# Altium integrated library Linear Technology Power Management LED Driver ICs.IntLib: 490 symbols (part 17 of 48)
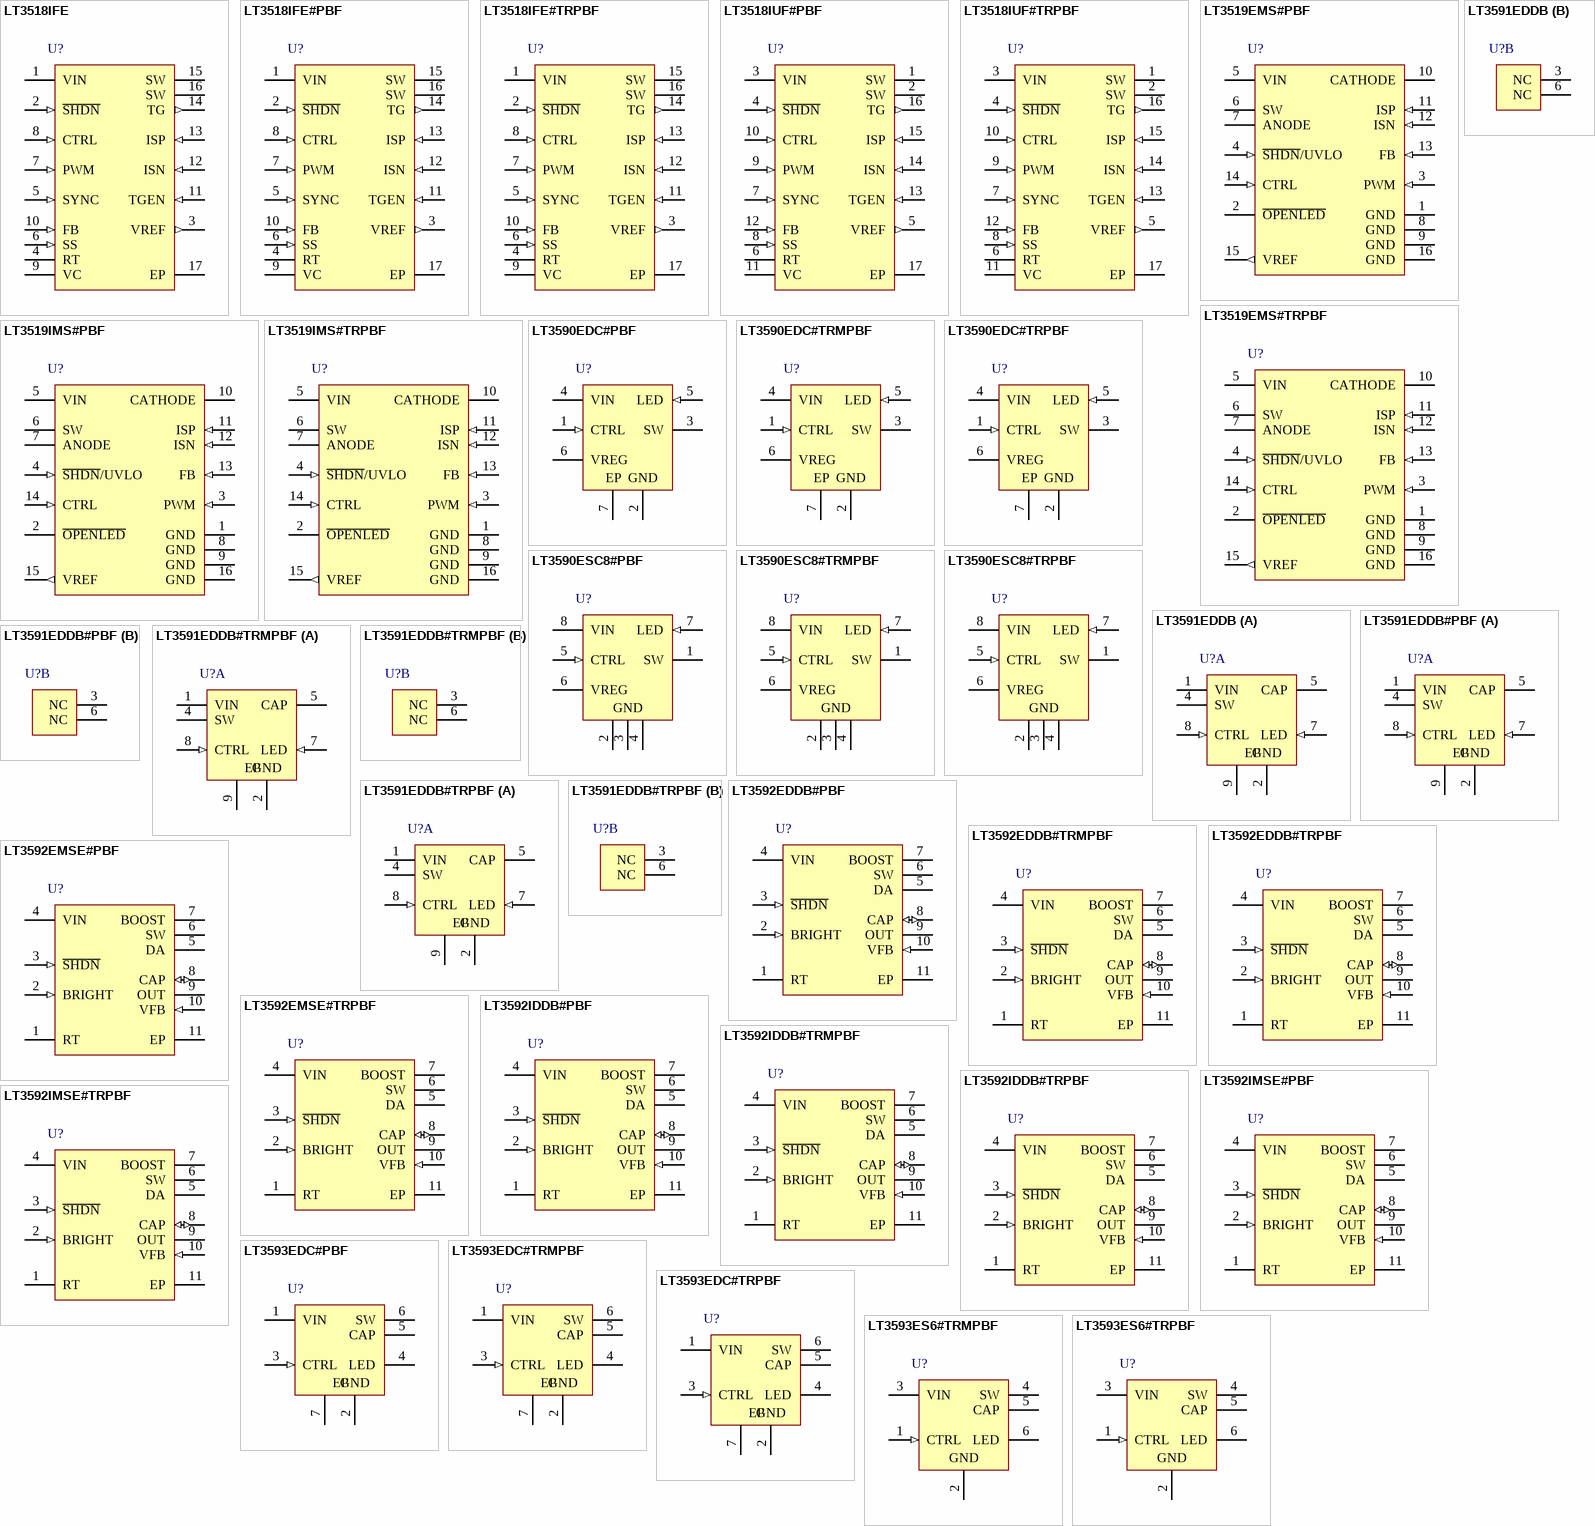
[diagram p36: symbols LT3518IFE to LT3593ES6#TRPBF]

## LT3593ES6#TRMPBF
designator U?
1 MHz White LED Driver with Output Disconnect and One Pin Current Programming, 2.7 to 5.5 V Vin, 45 V Vout MAX, 6-pin SOT23 (S6-6), -40 to 85 degC, Pb-Free, Mini Tape and Reel; Manufacturer: Linear Technology; PartNumber: LT3593ES6#TRMPBF; Topology: Boost, LED Driver; Vin Min(V): 2.7; PackageVersion: Jun-10; PackageReference: S6-6; PackageDescription: 6-Pin Plastic TSOT-23, Body 2.9 x 1.63 mm, Pitch 0.95 mm; Supplier 1: Digi-Key; Supplier Part Number 1: LT3593ES6#TRMPBFTR-ND; Supplier 2: Digi-Key; Supplier Part Number 2: LT3593ES6#TRMPBFCT-ND; Supplier 3: Digi-Key; Supplier Part Number 3: LT3593ES6#TRMPBFDKR-ND; Supplier 4: Farnell; Supplier Part Number 4: 1609755; Supplier 5: Newark; Supplier Part Number 5: 14N8615; Packing: Mini Tape and Reel; RoHS: TRUE; Mounting Technology: Surface Mount; Code_JEDEC: MO-193; ComponentLink1Description: Manufacturer URL; ComponentLink1URL: http://www.linear.com/; ComponentLink2Description: Datasheet; ComponentLink2URL: http://cds.linear.com/docs/en/datasheet/3593f.pdf; ComponentLink3Description: Package Specification; ComponentLink3URL: http://cds.linear.com/docs/en/packaging/SOT_6_05-08-1636.pdf
footprint LT-S6-6-TSOT-23_N (SOT23, 6-Leads, Body 2.9x1.75mm, Pitch 0.95mm, IPC Medium Density)
footprint LT-S6-6-TSOT-23_L (SOT23, 6-Leads, Body 2.9x1.75mm, Pitch 0.95mm, IPC High Density)
footprint LT-S6-6-TSOT-23_M (SOT23, 6-Leads, Body 2.9x1.75mm, Pitch 0.95mm, IPC Low Density)
pins: 1 CTRL (in) "Current Control and Shutdown Pin.This pin is used to program the LED output current. This pin is strobed up to 32 times to decrement the internal 5-bit dacs from full-scale to 1LSB. The counter will stop at 1LSB if the (See Datasheet)", 2 GND (power) "Ground Pin. Connect directly to local ground plane", 3 VIN (power) "Input Supply Pin. Must be locally bypassed with a 1uF X5R or X7R type ceramic capacitor.", 4 SW "Switch Pin. Connect inductor between this pin and the VIN pin. Minimize inductance at this pin to minimize EMI", 5 CAP "Output Pin. Connect to output capacitor.Minimize trace between this pin and output capacitor to reduce EMI", 6 LED (power) "LED Pin. An internal switch connects this pin to CAP. The top of the LED string is connected to this pin. When the part is in shutdown, the LED pin is switched off from CAP so no current runs through the leds. The switch is (See Datasheet)"

## LT3593ES6#TRPBF
designator U?
1 MHz White LED Driver with Output Disconnect and One Pin Current Programming, 2.7 to 5.5 V Vin, 45 V Vout MAX, 6-pin SOT23 (S6-6), -40 to 85 degC, Pb-Free, Tape and Reel; Manufacturer: Linear Technology; PartNumber: LT3593ES6#TRPBF; Topology: Boost, LED Driver; Vin Min(V): 2.7; PackageVersion: Jun-10; PackageReference: S6-6; PackageDescription: 6-Pin Plastic TSOT-23, Body 2.9 x 1.63 mm, Pitch 0.95 mm; Supplier 1: Digi-Key; Supplier Part Number 1: LT3593ES6#TRPBF-ND; Packing: Tape and Reel; RoHS: TRUE; Mounting Technology: Surface Mount; Code_JEDEC: MO-193; ComponentLink1Description: Manufacturer URL; ComponentLink1URL: http://www.linear.com/; ComponentLink2Description: Datasheet; ComponentLink2URL: http://cds.linear.com/docs/en/datasheet/3593f.pdf; ComponentLink3Description: Package Specification; ComponentLink3URL: http://cds.linear.com/docs/en/packaging/SOT_6_05-08-1636.pdf
footprint LT-S6-6-TSOT-23_N (SOT23, 6-Leads, Body 2.9x1.75mm, Pitch 0.95mm, IPC Medium Density)
footprint LT-S6-6-TSOT-23_L (SOT23, 6-Leads, Body 2.9x1.75mm, Pitch 0.95mm, IPC High Density)
footprint LT-S6-6-TSOT-23_M (SOT23, 6-Leads, Body 2.9x1.75mm, Pitch 0.95mm, IPC Low Density)
pins: 1 CTRL (in) "Current Control and Shutdown Pin.This pin is used to program the LED output current. This pin is strobed up to 32 times to decrement the internal 5-bit dacs from full-scale to 1LSB. The counter will stop at 1LSB if the (See Datasheet)", 2 GND (power) "Ground Pin. Connect directly to local ground plane", 3 VIN (power) "Input Supply Pin. Must be locally bypassed with a 1uF X5R or X7R type ceramic capacitor.", 4 SW "Switch Pin. Connect inductor between this pin and the VIN pin. Minimize inductance at this pin to minimize EMI", 5 CAP "Output Pin. Connect to output capacitor.Minimize trace between this pin and output capacitor to reduce EMI", 6 LED (power) "LED Pin. An internal switch connects this pin to CAP. The top of the LED string is connected to this pin. When the part is in shutdown, the LED pin is switched off from CAP so no current runs through the leds. The switch is (See Datasheet)"

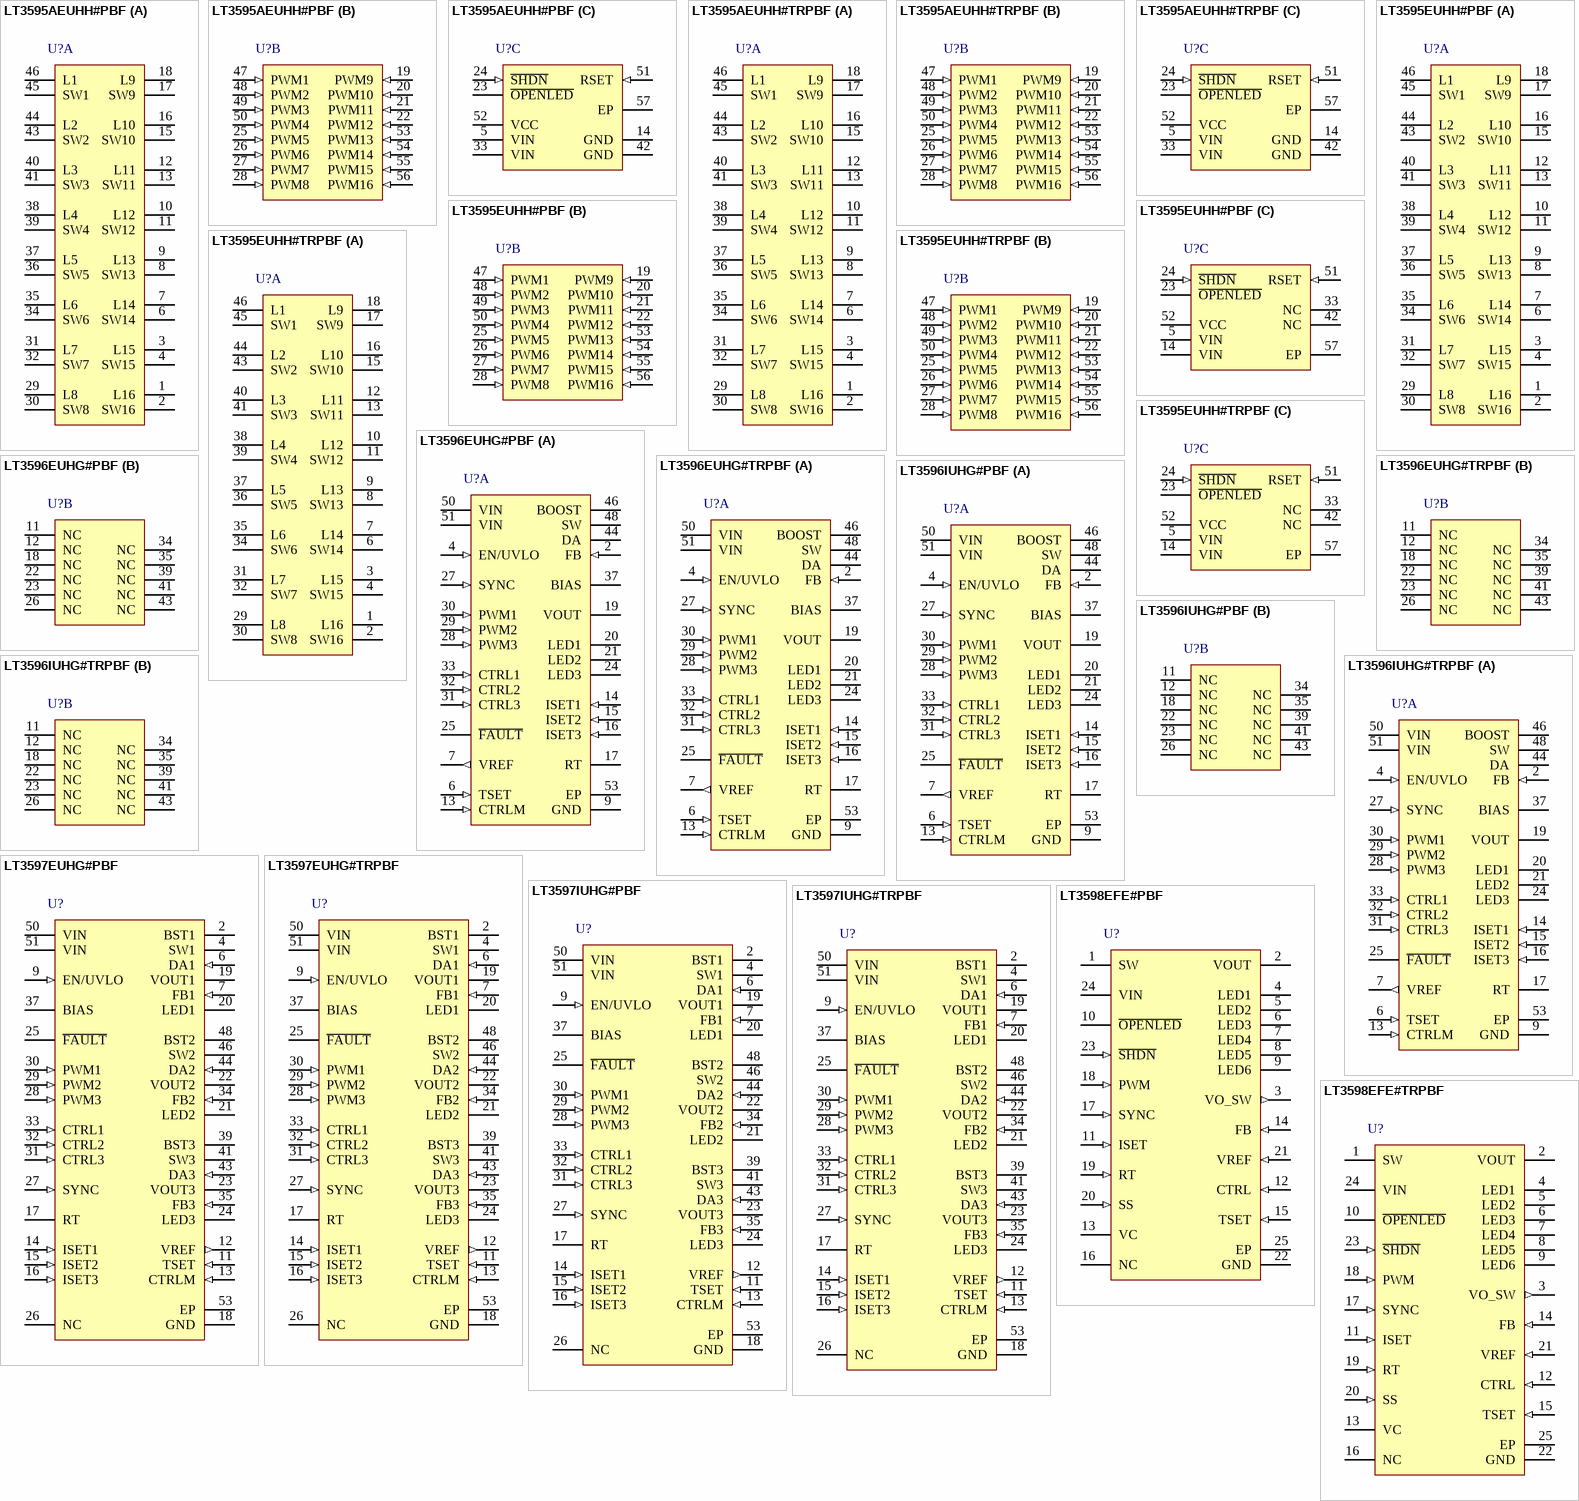
[diagram p7: symbols LT3595AEUHH#PBF to LT3598EFE#TRPBF]

## LT3595AEUHH#PBF
designator U?
16 Channel Buck Mode LED Driver, 4.5 to 45 V Vin, 45 V Vout MAX, 56-pin QFN (UHH-56), -40 to 85 degC, Pb-Free; Manufacturer: Linear Technology; PartNumber: LT3595AEUHH#PBF; Topology: Buck, LED Driver; Vin Min(V): 4.5; PackageVersion: Rev. A, 06/2010; PackageReference: UHH-56; PackageDescription: 56-Pin Plastic QFN, Body 5 x 9 mm, Pitch 0.4 mm; Supplier 1: Digi-Key; Supplier Part Number 1: LT3595AEUHH#PBF-ND; Supplier 2: Newark; Supplier Part Number 2: 71P8122; RoHS: TRUE; Mounting Technology: Surface Mount; ComponentLink1Description: Manufacturer URL; ComponentLink1URL: http://www.linear.com/; ComponentLink2Description: Datasheet; ComponentLink2URL: http://cds.linear.com/docs/en/datasheet/3595af.pdf; ComponentLink3Description: Package Specification; ComponentLink3URL: http://cds.linear.com/docs/en/packaging/QFN_56_05-08-1727.pdf
footprint LT-UHH-56_N (QFN, 56-Leads, Body 9.1x5.1mm, Pitch 0.4mm, Thermal Pad 7.13x3.45mm, IPC Medium Density)
footprint LT-UHH-56_L (QFN, 56-Leads, Body 9.1x5.1mm, Pitch 0.4mm, Thermal Pad 7.13x3.45mm, IPC High Density)
footprint LT-UHH-56_M (QFN, 56-Leads, Body 9.1x5.1mm, Pitch 0.4mm, Thermal Pad 7.13x3.45mm, IPC Low Density)
part A pins: 1 L16 (power) "LED Pins. Connection point for the anode of the highest LED in each string.", 2 SW16 "Switch Pins. Minimize trace area at these pins to minimize EMI. Connect the inductors to these pins.", 3 L15 (power) "LED Pins. Connection point for the anode of the highest LED in each string.", 4 SW15 "Switch Pins. Minimize trace area at these pins to minimize EMI. Connect the inductors to these pins.", 6 SW14 "Switch Pins. Minimize trace area at these pins to minimize EMI. Connect the inductors to these pins.", 7 L14 (power) "LED Pins. Connection point for the anode of the highest LED in each string.", 8 SW13 "Switch Pins. Minimize trace area at these pins to minimize EMI. Connect the inductors to these pins.", 9 L13 (power) "LED Pins. Connection point for the anode of the highest LED in each string.", 10 L12 (power) "LED Pins. Connection point for the anode of the highest LED in each string.", 11 SW12 "Switch Pins. Minimize trace area at these pins to minimize EMI. Connect the inductors to these pins.", 12 L11 (power) "LED Pins. Connection point for the anode of the highest LED in each string.", 13 SW11 "Switch Pins. Minimize trace area at these pins to minimize EMI. Connect the inductors to these pins.", 15 SW10 "Switch Pins. Minimize trace area at these pins to minimize EMI. Connect the inductors to these pins.", 16 L10 (power) "LED Pins. Connection point for the anode of the highest LED in each string.", 17 SW9 "Switch Pins. Minimize trace area at these pins to minimize EMI. Connect the inductors to these pins.", 18 L9 (power) "LED Pins. Connection point for the anode of the highest LED in each string.", 29 L8 (power) "LED Pins. Connection point for the anode of the highest LED in each string.", 30 SW8 "Switch Pins. Minimize trace area at these pins to minimize EMI. Connect the inductors to these pins.", 31 L7 (power) "LED Pins. Connection point for the anode of the highest LED in each string.", 32 SW7 "Switch Pins. Minimize trace area at these pins to minimize EMI. Connect the inductors to these pins.", 34 SW6 "Switch Pins. Minimize trace area at these pins to minimize EMI. Connect the inductors to these pins.", 35 L6 (power) "LED Pins. Connection point for the anode of the highest LED in each string.", 36 SW5 "Switch Pins. Minimize trace area at these pins to minimize EMI. Connect the inductors to these pins.", 37 L5 (power) "LED Pins. Connection point for the anode of the highest LED in each string.", 38 L4 (power) "LED Pins. Connection point for the anode of the highest LED in each string.", 39 SW4 "Switch Pins. Minimize trace area at these pins to minimize EMI. Connect the inductors to these pins.", 40 L3 (power) "LED Pins. Connection point for the anode of the highest LED in each string.", 41 SW3 "Switch Pins. Minimize trace area at these pins to minimize EMI. Connect the inductors to these pins.", 43 SW2 "Switch Pins. Minimize trace area at these pins to minimize EMI. Connect the inductors to these pins.", 44 L2 (power) "LED Pins. Connection point for the anode of the highest LED in each string.", 45 SW1 "Switch Pins. Minimize trace area at these pins to minimize EMI. Connect the inductors to these pins.", 46 L1 (power) "LED Pins. Connection point for the anode of the highest LED in each string."
part B pins: 19 PWM9 (in) "Input Pin for LED Dimming Function. The rising edge of each channel must be synchronized.", 20 PWM10 (in) "Input Pin for LED Dimming Function. The rising edge of each channel must be synchronized.", 21 PWM11 (in) "Input Pin for LED Dimming Function. The rising edge of each channel must be synchronized.", 22 PWM12 (in) "Input Pin for LED Dimming Function. The rising edge of each channel must be synchronized.", 25 PWM5 (in) "Input Pin for LED Dimming Function. The rising edge of each channel must be synchronized.", 26 PWM6 (in) "Input Pin for LED Dimming Function. The rising edge of each channel must be synchronized.", 27 PWM7 (in) "Input Pin for LED Dimming Function. The rising edge of each channel must be synchronized.", 28 PWM8 (in) "Input Pin for LED Dimming Function. The rising edge of each channel must be synchronized.", 47 PWM1 (in) "Input Pin for LED Dimming Function. The rising edge of each channel must be synchronized.", 48 PWM2 (in) "Input Pin for LED Dimming Function. The rising edge of each channel must be synchronized.", 49 PWM3 (in) "Input Pin for LED Dimming Function. The rising edge of each channel must be synchronized.", 50 PWM4 (in) "Input Pin for LED Dimming Function. The rising edge of each channel must be synchronized.", 53 PWM13 (in) "Input Pin for LED Dimming Function. The rising edge of each channel must be synchronized.", 54 PWM14 (in) "Input Pin for LED Dimming Function. The rising edge of each channel must be synchronized.", 55 PWM15 (in) "Input Pin for LED Dimming Function. The rising edge of each channel must be synchronized.", 56 PWM16 (in) "Input Pin for LED Dimming Function. The rising edge of each channel must be synchronized."
part C pins: 5 VIN (power) "4.5V to 45V Input Supply Pin. Must be locally bypassed. Both VIN pins must be tied together.", 14 GND (power) "Ground. Connect these pins to ground.", 23 ~{OPENLED} (oc) "Open Collector Output for Reporting Faults. If any channel experiences an open LED connection, the O\P\E\N\L\E\D\ pin is pulled low.", 24 ~{SHDN} (in) "Shutdown. Tie to 1.6V or greater to enable the device. Tie below 0.4V to turn off the device.", 33 VIN (power) "4.5V to 45V Input Supply Pin. Must be locally bypassed. Both VIN pins must be tied together.", 42 GND (power) "Ground. Connect these pins to ground.", 51 RSET (in) "External Resistor to Set the Master LED Current. The LED current is equal to: ILED=1.21V*1240/RSET where RSET is the value of the external resistor. Use a kelvin for ground metal.", 52 VCC (power) "3.3V Input Supply. Must be locally bypassed.", 57 EP (power) "Ground. The Exposed Pad must be soldered to PCB. Use wide metal from backtab to the grounds of the input capacitors on VCC and VIN."

## LT3595AEUHH#TRPBF
designator U?
16 Channel Buck Mode LED Driver, 4.5 to 45 V Vin, 45 V Vout MAX, 56-pin QFN (UHH-56), -40 to 85 degC, Pb-Free, Tape and Reel; Manufacturer: Linear Technology; PartNumber: LT3595AEUHH#TRPBF; Topology: Buck, LED Driver; Vin Min(V): 4.5; PackageVersion: Rev. A, 06/2010; PackageReference: UHH-56; PackageDescription: 56-Pin Plastic QFN, Body 5 x 9 mm, Pitch 0.4 mm; Supplier 1: Digi-Key; Supplier Part Number 1: LT3595AEUHH#TRPBF-ND; Packing: Tape and Reel; RoHS: TRUE; Mounting Technology: Surface Mount; ComponentLink1Description: Manufacturer URL; ComponentLink1URL: http://www.linear.com/; ComponentLink2Description: Datasheet; ComponentLink2URL: http://cds.linear.com/docs/en/datasheet/3595af.pdf; ComponentLink3Description: Package Specification; ComponentLink3URL: http://cds.linear.com/docs/en/packaging/QFN_56_05-08-1727.pdf
footprint LT-UHH-56_N (QFN, 56-Leads, Body 9.1x5.1mm, Pitch 0.4mm, Thermal Pad 7.13x3.45mm, IPC Medium Density)
footprint LT-UHH-56_L (QFN, 56-Leads, Body 9.1x5.1mm, Pitch 0.4mm, Thermal Pad 7.13x3.45mm, IPC High Density)
footprint LT-UHH-56_M (QFN, 56-Leads, Body 9.1x5.1mm, Pitch 0.4mm, Thermal Pad 7.13x3.45mm, IPC Low Density)
part A pins: 1 L16 (power) "LED Pins. Connection point for the anode of the highest LED in each string.", 2 SW16 "Switch Pins. Minimize trace area at these pins to minimize EMI. Connect the inductors to these pins.", 3 L15 (power) "LED Pins. Connection point for the anode of the highest LED in each string.", 4 SW15 "Switch Pins. Minimize trace area at these pins to minimize EMI. Connect the inductors to these pins.", 6 SW14 "Switch Pins. Minimize trace area at these pins to minimize EMI. Connect the inductors to these pins.", 7 L14 (power) "LED Pins. Connection point for the anode of the highest LED in each string.", 8 SW13 "Switch Pins. Minimize trace area at these pins to minimize EMI. Connect the inductors to these pins.", 9 L13 (power) "LED Pins. Connection point for the anode of the highest LED in each string.", 10 L12 (power) "LED Pins. Connection point for the anode of the highest LED in each string.", 11 SW12 "Switch Pins. Minimize trace area at these pins to minimize EMI. Connect the inductors to these pins.", 12 L11 (power) "LED Pins. Connection point for the anode of the highest LED in each string.", 13 SW11 "Switch Pins. Minimize trace area at these pins to minimize EMI. Connect the inductors to these pins.", 15 SW10 "Switch Pins. Minimize trace area at these pins to minimize EMI. Connect the inductors to these pins.", 16 L10 (power) "LED Pins. Connection point for the anode of the highest LED in each string.", 17 SW9 "Switch Pins. Minimize trace area at these pins to minimize EMI. Connect the inductors to these pins.", 18 L9 (power) "LED Pins. Connection point for the anode of the highest LED in each string.", 29 L8 (power) "LED Pins. Connection point for the anode of the highest LED in each string.", 30 SW8 "Switch Pins. Minimize trace area at these pins to minimize EMI. Connect the inductors to these pins.", 31 L7 (power) "LED Pins. Connection point for the anode of the highest LED in each string.", 32 SW7 "Switch Pins. Minimize trace area at these pins to minimize EMI. Connect the inductors to these pins.", 34 SW6 "Switch Pins. Minimize trace area at these pins to minimize EMI. Connect the inductors to these pins.", 35 L6 (power) "LED Pins. Connection point for the anode of the highest LED in each string.", 36 SW5 "Switch Pins. Minimize trace area at these pins to minimize EMI. Connect the inductors to these pins.", 37 L5 (power) "LED Pins. Connection point for the anode of the highest LED in each string.", 38 L4 (power) "LED Pins. Connection point for the anode of the highest LED in each string.", 39 SW4 "Switch Pins. Minimize trace area at these pins to minimize EMI. Connect the inductors to these pins.", 40 L3 (power) "LED Pins. Connection point for the anode of the highest LED in each string.", 41 SW3 "Switch Pins. Minimize trace area at these pins to minimize EMI. Connect the inductors to these pins.", 43 SW2 "Switch Pins. Minimize trace area at these pins to minimize EMI. Connect the inductors to these pins.", 44 L2 (power) "LED Pins. Connection point for the anode of the highest LED in each string.", 45 SW1 "Switch Pins. Minimize trace area at these pins to minimize EMI. Connect the inductors to these pins.", 46 L1 (power) "LED Pins. Connection point for the anode of the highest LED in each string."
part B pins: 19 PWM9 (in) "Input Pin for LED Dimming Function. The rising edge of each channel must be synchronized.", 20 PWM10 (in) "Input Pin for LED Dimming Function. The rising edge of each channel must be synchronized.", 21 PWM11 (in) "Input Pin for LED Dimming Function. The rising edge of each channel must be synchronized.", 22 PWM12 (in) "Input Pin for LED Dimming Function. The rising edge of each channel must be synchronized.", 25 PWM5 (in) "Input Pin for LED Dimming Function. The rising edge of each channel must be synchronized.", 26 PWM6 (in) "Input Pin for LED Dimming Function. The rising edge of each channel must be synchronized.", 27 PWM7 (in) "Input Pin for LED Dimming Function. The rising edge of each channel must be synchronized.", 28 PWM8 (in) "Input Pin for LED Dimming Function. The rising edge of each channel must be synchronized.", 47 PWM1 (in) "Input Pin for LED Dimming Function. The rising edge of each channel must be synchronized.", 48 PWM2 (in) "Input Pin for LED Dimming Function. The rising edge of each channel must be synchronized.", 49 PWM3 (in) "Input Pin for LED Dimming Function. The rising edge of each channel must be synchronized.", 50 PWM4 (in) "Input Pin for LED Dimming Function. The rising edge of each channel must be synchronized.", 53 PWM13 (in) "Input Pin for LED Dimming Function. The rising edge of each channel must be synchronized.", 54 PWM14 (in) "Input Pin for LED Dimming Function. The rising edge of each channel must be synchronized.", 55 PWM15 (in) "Input Pin for LED Dimming Function. The rising edge of each channel must be synchronized.", 56 PWM16 (in) "Input Pin for LED Dimming Function. The rising edge of each channel must be synchronized."
part C pins: 5 VIN (power) "4.5V to 45V Input Supply Pin. Must be locally bypassed. Both VIN pins must be tied together.", 14 GND (power) "Ground. Connect these pins to ground.", 23 ~{OPENLED} (oc) "Open Collector Output for Reporting Faults. If any channel experiences an open LED connection, the O\P\E\N\L\E\D\ pin is pulled low.", 24 ~{SHDN} (in) "Shutdown. Tie to 1.6V or greater to enable the device. Tie below 0.4V to turn off the device.", 33 VIN (power) "4.5V to 45V Input Supply Pin. Must be locally bypassed. Both VIN pins must be tied together.", 42 GND (power) "Ground. Connect these pins to ground.", 51 RSET (in) "External Resistor to Set the Master LED Current. The LED current is equal to: ILED=1.21V*1240/RSET where RSET is the value of the external resistor. Use a kelvin for ground metal.", 52 VCC (power) "3.3V Input Supply. Must be locally bypassed.", 57 EP (power) "Ground. The Exposed Pad must be soldered to PCB. Use wide metal from backtab to the grounds of the input capacitors on VCC and VIN."

## LT3595EUHH#PBF
designator U?
16 Channel Buck Mode LED Driver, 4.5 to 45 V Vin, 45 V Vout MAX, 56-pin QFN (UHH-56), -40 to 85 degC, Pb-Free; Manufacturer: Linear Technology; PartNumber: LT3595EUHH#PBF; Topology: Buck, LED Driver; Vin Min(V): 4.5; PackageVersion: Rev. A, 06/2010; PackageReference: UHH-56; PackageDescription: 56-Pin Plastic QFN, Body 5 x 9 mm, Pitch 0.4 mm; Supplier 1: Digi-Key; Supplier Part Number 1: LT3595EUHH#PBF-ND; Supplier 2: Newark; Supplier Part Number 2: 57M8540; RoHS: TRUE; Mounting Technology: Surface Mount; ComponentLink1Description: Manufacturer URL; ComponentLink1URL: http://www.linear.com/; ComponentLink2Description: Datasheet; ComponentLink2URL: http://cds.linear.com/docs/en/datasheet/3595f.pdf; ComponentLink3Description: Package Specification; ComponentLink3URL: http://cds.linear.com/docs/en/packaging/QFN_56_05-08-1727.pdf
footprint LT-UHH-56_N (QFN, 56-Leads, Body 9.1x5.1mm, Pitch 0.4mm, Thermal Pad 7.13x3.45mm, IPC Medium Density)
footprint LT-UHH-56_L (QFN, 56-Leads, Body 9.1x5.1mm, Pitch 0.4mm, Thermal Pad 7.13x3.45mm, IPC High Density)
footprint LT-UHH-56_M (QFN, 56-Leads, Body 9.1x5.1mm, Pitch 0.4mm, Thermal Pad 7.13x3.45mm, IPC Low Density)
part A pins: 1 L16 (power) "LED Pins. Connection point for the anode of the highest LED in each string.", 2 SW16 "Switch Pins. Minimize trace area at these pins to minimize EMI. Connect the inductors to these pins.", 3 L15 (power) "LED Pins. Connection point for the anode of the highest LED in each string.", 4 SW15 "Switch Pins. Minimize trace area at these pins to minimize EMI. Connect the inductors to these pins.", 6 SW14 "Switch Pins. Minimize trace area at these pins to minimize EMI. Connect the inductors to these pins.", 7 L14 (power) "LED Pins. Connection point for the anode of the highest LED in each string.", 8 SW13 "Switch Pins. Minimize trace area at these pins to minimize EMI. Connect the inductors to these pins.", 9 L13 (power) "LED Pins. Connection point for the anode of the highest LED in each string.", 10 L12 (power) "LED Pins. Connection point for the anode of the highest LED in each string.", 11 SW12 "Switch Pins. Minimize trace area at these pins to minimize EMI. Connect the inductors to these pins.", 12 L11 (power) "LED Pins. Connection point for the anode of the highest LED in each string.", 13 SW11 "Switch Pins. Minimize trace area at these pins to minimize EMI. Connect the inductors to these pins.", 15 SW10 "Switch Pins. Minimize trace area at these pins to minimize EMI. Connect the inductors to these pins.", 16 L10 (power) "LED Pins. Connection point for the anode of the highest LED in each string.", 17 SW9 "Switch Pins. Minimize trace area at these pins to minimize EMI. Connect the inductors to these pins.", 18 L9 (power) "LED Pins. Connection point for the anode of the highest LED in each string.", 29 L8 (power) "LED Pins. Connection point for the anode of the highest LED in each string.", 30 SW8 "Switch Pins. Minimize trace area at these pins to minimize EMI. Connect the inductors to these pins.", 31 L7 (power) "LED Pins. Connection point for the anode of the highest LED in each string.", 32 SW7 "Switch Pins. Minimize trace area at these pins to minimize EMI. Connect the inductors to these pins.", 34 SW6 "Switch Pins. Minimize trace area at these pins to minimize EMI. Connect the inductors to these pins.", 35 L6 (power) "LED Pins. Connection point for the anode of the highest LED in each string.", 36 SW5 "Switch Pins. Minimize trace area at these pins to minimize EMI. Connect the inductors to these pins.", 37 L5 (power) "LED Pins. Connection point for the anode of the highest LED in each string.", 38 L4 (power) "LED Pins. Connection point for the anode of the highest LED in each string.", 39 SW4 "Switch Pins. Minimize trace area at these pins to minimize EMI. Connect the inductors to these pins.", 40 L3 (power) "LED Pins. Connection point for the anode of the highest LED in each string.", 41 SW3 "Switch Pins. Minimize trace area at these pins to minimize EMI. Connect the inductors to these pins.", 43 SW2 "Switch Pins. Minimize trace area at these pins to minimize EMI. Connect the inductors to these pins.", 44 L2 (power) "LED Pins. Connection point for the anode of the highest LED in each string.", 45 SW1 "Switch Pins. Minimize trace area at these pins to minimize EMI. Connect the inductors to these pins.", 46 L1 (power) "LED Pins. Connection point for the anode of the highest LED in each string."
part B pins: 19 PWM9 (in) "Input Pin for LED Dimming Function. The rising edge of each channelmust be synchronized.", 20 PWM10 (in) "Input Pin for LED Dimming Function. The rising edge of each channelmust be synchronized.", 21 PWM11 (in) "Input Pin for LED Dimming Function. The rising edge of each channelmust be synchronized.", 22 PWM12 (in) "Input Pin for LED Dimming Function. The rising edge of each channelmust be synchronized.", 25 PWM5 (in) "Input Pin for LED Dimming Function. The rising edge of each channelmust be synchronized.", 26 PWM6 (in) "Input Pin for LED Dimming Function. The rising edge of each channelmust be synchronized.", 27 PWM7 (in) "Input Pin for LED Dimming Function. The rising edge of each channelmust be synchronized.", 28 PWM8 (in) "Input Pin for LED Dimming Function. The rising edge of each channelmust be synchronized.", 47 PWM1 (in) "Input Pin for LED Dimming Function. The rising edge of each channelmust be synchronized.", 48 PWM2 (in) "Input Pin for LED Dimming Function. The rising edge of each channelmust be synchronized.", 49 PWM3 (in) "Input Pin for LED Dimming Function. The rising edge of each channelmust be synchronized.", 50 PWM4 (in) "Input Pin for LED Dimming Function. The rising edge of each channelmust be synchronized.", 53 PWM13 (in) "Input Pin for LED Dimming Function. The rising edge of each channelmust be synchronized.", 54 PWM14 (in) "Input Pin for LED Dimming Function. The rising edge of each channelmust be synchronized.", 55 PWM15 (in) "Input Pin for LED Dimming Function. The rising edge of each channelmust be synchronized.", 56 PWM16 (in) "Input Pin for LED Dimming Function. The rising edge of each channelmust be synchronized."
part C pins: 5 VIN (power) "4.5V to 45V Input Supply Pin. Must be locally bypassed. Both VIN pins must be tied together.", 14 VIN (power) "4.5V to 45V Input Supply Pin. Must be locally bypassed. Both VIN pins must be tied together.", 23 ~{OPENLED} (oc) "Open Collector Output for Reporting Faults. If any channel experiences an open LED connection, the O\P\E\N\L\E\D\ pin is pulled low.", 24 ~{SHDN} (in) "Shutdown. Tie to 1.6V or greater to enable the device. Tie below 0.4V to turn off the device.", 33 NC "No Connect. Connect these pins to ground.", 42 NC "No Connect. Connect these pins to ground.", 51 RSET (in) "External Resistor to Set the Master LED Current. The LED current is equal to: ILED=1.21V*1240/RSET where RSET is the value of the external resistor. Use a kelvin for ground metal.", 52 VCC (power) "3.3V Input Supply. Must be locally bypassed.", 57 EP (power) "Ground. The Exposed Pad must be soldered to PCB. Use wide metal from backtab to the grounds of the input capacitors on VCC and VIN."

## LT3595EUHH#TRPBF
designator U?
16 Channel Buck Mode LED Driver, 4.5 to 45 V Vin, 45 V Vout MAX, 56-pin QFN (UHH-56), -40 to 85 degC, Pb-Free, Tape and Reel; Manufacturer: Linear Technology; PartNumber: LT3595EUHH#TRPBF; Topology: Buck, LED Driver; Vin Min(V): 4.5; PackageVersion: Rev. A, 06/2010; PackageReference: UHH-56; PackageDescription: 56-Pin Plastic QFN, Body 5 x 9 mm, Pitch 0.4 mm; Supplier 1: Digi-Key; Supplier Part Number 1: LT3595EUHH#TRPBF-ND; Packing: Tape and Reel; RoHS: TRUE; Mounting Technology: Surface Mount; ComponentLink1Description: Manufacturer URL; ComponentLink1URL: http://www.linear.com/; ComponentLink2Description: Datasheet; ComponentLink2URL: http://cds.linear.com/docs/en/datasheet/3595f.pdf; ComponentLink3Description: Package Specification; ComponentLink3URL: http://cds.linear.com/docs/en/packaging/QFN_56_05-08-1727.pdf
footprint LT-UHH-56_N (QFN, 56-Leads, Body 9.1x5.1mm, Pitch 0.4mm, Thermal Pad 7.13x3.45mm, IPC Medium Density)
footprint LT-UHH-56_L (QFN, 56-Leads, Body 9.1x5.1mm, Pitch 0.4mm, Thermal Pad 7.13x3.45mm, IPC High Density)
footprint LT-UHH-56_M (QFN, 56-Leads, Body 9.1x5.1mm, Pitch 0.4mm, Thermal Pad 7.13x3.45mm, IPC Low Density)
part A pins: 1 L16 (power) "LED Pins. Connection point for the anode of the highest LED in each string.", 2 SW16 "Switch Pins. Minimize trace area at these pins to minimize EMI. Connect the inductors to these pins.", 3 L15 (power) "LED Pins. Connection point for the anode of the highest LED in each string.", 4 SW15 "Switch Pins. Minimize trace area at these pins to minimize EMI. Connect the inductors to these pins.", 6 SW14 "Switch Pins. Minimize trace area at these pins to minimize EMI. Connect the inductors to these pins.", 7 L14 (power) "LED Pins. Connection point for the anode of the highest LED in each string.", 8 SW13 "Switch Pins. Minimize trace area at these pins to minimize EMI. Connect the inductors to these pins.", 9 L13 (power) "LED Pins. Connection point for the anode of the highest LED in each string.", 10 L12 (power) "LED Pins. Connection point for the anode of the highest LED in each string.", 11 SW12 "Switch Pins. Minimize trace area at these pins to minimize EMI. Connect the inductors to these pins.", 12 L11 (power) "LED Pins. Connection point for the anode of the highest LED in each string.", 13 SW11 "Switch Pins. Minimize trace area at these pins to minimize EMI. Connect the inductors to these pins.", 15 SW10 "Switch Pins. Minimize trace area at these pins to minimize EMI. Connect the inductors to these pins.", 16 L10 (power) "LED Pins. Connection point for the anode of the highest LED in each string.", 17 SW9 "Switch Pins. Minimize trace area at these pins to minimize EMI. Connect the inductors to these pins.", 18 L9 (power) "LED Pins. Connection point for the anode of the highest LED in each string.", 29 L8 (power) "LED Pins. Connection point for the anode of the highest LED in each string.", 30 SW8 "Switch Pins. Minimize trace area at these pins to minimize EMI. Connect the inductors to these pins.", 31 L7 (power) "LED Pins. Connection point for the anode of the highest LED in each string.", 32 SW7 "Switch Pins. Minimize trace area at these pins to minimize EMI. Connect the inductors to these pins.", 34 SW6 "Switch Pins. Minimize trace area at these pins to minimize EMI. Connect the inductors to these pins.", 35 L6 (power) "LED Pins. Connection point for the anode of the highest LED in each string.", 36 SW5 "Switch Pins. Minimize trace area at these pins to minimize EMI. Connect the inductors to these pins.", 37 L5 (power) "LED Pins. Connection point for the anode of the highest LED in each string.", 38 L4 (power) "LED Pins. Connection point for the anode of the highest LED in each string.", 39 SW4 "Switch Pins. Minimize trace area at these pins to minimize EMI. Connect the inductors to these pins.", 40 L3 (power) "LED Pins. Connection point for the anode of the highest LED in each string.", 41 SW3 "Switch Pins. Minimize trace area at these pins to minimize EMI. Connect the inductors to these pins.", 43 SW2 "Switch Pins. Minimize trace area at these pins to minimize EMI. Connect the inductors to these pins.", 44 L2 (power) "LED Pins. Connection point for the anode of the highest LED in each string.", 45 SW1 "Switch Pins. Minimize trace area at these pins to minimize EMI. Connect the inductors to these pins.", 46 L1 (power) "LED Pins. Connection point for the anode of the highest LED in each string."
part B pins: 19 PWM9 (in) "Input Pin for LED Dimming Function. The rising edge of each channelmust be synchronized.", 20 PWM10 (in) "Input Pin for LED Dimming Function. The rising edge of each channelmust be synchronized.", 21 PWM11 (in) "Input Pin for LED Dimming Function. The rising edge of each channelmust be synchronized.", 22 PWM12 (in) "Input Pin for LED Dimming Function. The rising edge of each channelmust be synchronized.", 25 PWM5 (in) "Input Pin for LED Dimming Function. The rising edge of each channelmust be synchronized.", 26 PWM6 (in) "Input Pin for LED Dimming Function. The rising edge of each channelmust be synchronized.", 27 PWM7 (in) "Input Pin for LED Dimming Function. The rising edge of each channelmust be synchronized.", 28 PWM8 (in) "Input Pin for LED Dimming Function. The rising edge of each channelmust be synchronized.", 47 PWM1 (in) "Input Pin for LED Dimming Function. The rising edge of each channelmust be synchronized.", 48 PWM2 (in) "Input Pin for LED Dimming Function. The rising edge of each channelmust be synchronized.", 49 PWM3 (in) "Input Pin for LED Dimming Function. The rising edge of each channelmust be synchronized.", 50 PWM4 (in) "Input Pin for LED Dimming Function. The rising edge of each channelmust be synchronized.", 53 PWM13 (in) "Input Pin for LED Dimming Function. The rising edge of each channelmust be synchronized.", 54 PWM14 (in) "Input Pin for LED Dimming Function. The rising edge of each channelmust be synchronized.", 55 PWM15 (in) "Input Pin for LED Dimming Function. The rising edge of each channelmust be synchronized.", 56 PWM16 (in) "Input Pin for LED Dimming Function. The rising edge of each channelmust be synchronized."
part C pins: 5 VIN (power) "4.5V to 45V Input Supply Pin. Must be locally bypassed. Both VIN pins must be tied together.", 14 VIN (power) "4.5V to 45V Input Supply Pin. Must be locally bypassed. Both VIN pins must be tied together.", 23 ~{OPENLED} (oc) "Open Collector Output for Reporting Faults. If any channel experiences an open LED connection, the O\P\E\N\L\E\D\ pin is pulled low.", 24 ~{SHDN} (in) "Shutdown. Tie to 1.6V or greater to enable the device. Tie below 0.4V to turn off the device.", 33 NC "No Connect. Connect these pins to ground.", 42 NC "No Connect. Connect these pins to ground.", 51 RSET (in) "External Resistor to Set the Master LED Current. The LED current is equal to: ILED=1.21V*1240/RSET where RSET is the value of the external resistor. Use a kelvin for ground metal.", 52 VCC (power) "3.3V Input Supply. Must be locally bypassed.", 57 EP (power) "Ground. The Exposed Pad must be soldered to PCB. Use wide metal from backtab to the grounds of the input capacitors on VCC and VIN."

## LT3596EUHG#PBF
designator U?
Step-Down LED Driver, 6 to 60 V Vin, 60 V Vout MAX, 39-pin QFN (UHG-52-V-UHG52 (39)), -40 to 125 degC, Pb-Free; Manufacturer: Linear Technology; PartNumber: LT3596EUHG#PBF; Topology: Buck, LED Driver; Vin Min(V): 6; DatasheetVersion: Rev. A; PackageVersion: Rev. B, 06/2010; PackageReference: UHG-52; PackageDescription: 39-Pin Plastic QFN, Body 5 x 8 mm; Supplier 1: Digi-Key; Supplier Part Number 1: LT3596EUHG#PBF-ND; Supplier 2: Farnell; Supplier Part Number 2: 1833003; Supplier 3: Newark; Supplier Part Number 3: 78R8458; RoHS: TRUE; Mounting Technology: Surface Mount; ComponentLink1Description: Manufacturer URL; ComponentLink1URL: http://www.linear.com/; ComponentLink2Description: Datasheet; ComponentLink2URL: http://cds.linear.com/docs/en/datasheet/3596fa.pdf; ComponentLink3Description: Package Specification; ComponentLink3URL: http://cds.linear.com/docs/en/packaging/QFN_52_05-08-1846.pdf
footprint LT-UHG-52-V-UHG52 (39)_N (QFN, 39-Leads, Body 8.1x5.1mm, Thermal Pad 5.9x2.9mm, IPC Medium Density)
footprint LT-UHG-52-V-UHG52 (39)_L (QFN, 39-Leads, Body 8.1x5.1mm, Thermal Pad 5.9x2.9mm, IPC High Density)
footprint LT-UHG-52-V-UHG52 (39)_M (QFN, 39-Leads, Body 8.1x5.1mm, Thermal Pad 5.9x2.9mm, IPC Low Density)
part A pins: 2 FB (in) "Feedback Pin. This pin is regulated to the internal bandgap voltage. The maximum buck output voltage is set by connecting this pin to a resistor divider from VOUT.", 4 EN/UVLO (in) "Enable and Undervoltage Lockout Pin. Accurate 1.5V falling threshold. UVLO threshold is programmed by using a resistor divider from VIN.", 6 TSET (in) "Thermal Regulation Pin. Programs the LT3596 junction temperature at which LED current begins to derate.", 7 VREF (out) "2V Reference Output Pin. This pin sources up to 200uA and is used to program TSET and CTRLM.", 9 GND (power) "Ground Pin. This is the ground for both the IC and the switching converter. Exposed pad must be soldered to PCB ground.", 13 CTRLM (in) "Master Control Pin. LED current derating vs temperature is achievable for all channels if the voltage on CTRLM has a negative coefficient using an external NTC resistor divider from VREF .", 14 ISET1 (in) "LED Current Programming Pin. Resistor to ground programs full-scale LED current.", 15 ISET2 (in) "LED Current Programming Pin. Resistor to ground programs full-scale LED current.", 16 ISET3 (in) "LED Current Programming Pin. Resistor to ground programs full-scale LED current.", 17 RT "Switching Frequency Programming Pin. A resistor to ground programs switching frequency between 200kHz and 1MHz. For the SYNC function, choose the resistor to program a frequency 20% slower than the SYNC pulse frequency.", 19 VOUT (power) "Buck Output. This is the buck regulator output voltage sense into the IC.", 20 LED1 (oc) "Constant-Current Sink Pin. These are three LED driver outputs, each containing an open collector, constant current sink. All outputs are matched within +/-1.5% and are individually programmed up to 100mA using an external (See Datasheet)", 21 LED2 (oc) "Constant-Current Sink Pin. These are three LED driver outputs, each containing an open collector, constant current sink. All outputs are matched within +/-1.5% and are individually programmed up to 100mA using an external (See Datasheet)", 24 LED3 (oc) "Constant-Current Sink Pin. These are three LED driver outputs, each containing an open collector, constant current sink. All outputs are matched within +/-1.5% and are individually programmed up to 100mA using an external (See Datasheet)", 25 ~{FAULT} (oc) "Fault Detection Pin. Open-collector pin used to report open LED faults. FAULT must be externally pulled to a positive supply.", 27 SYNC (in) "External Clock Synchronization Pin. When an external clock drives this pin, the buck regulator is synchronized to that frequency. Frequency programmed by the RT pin resistor must be at least 20% slower than the SYNC pin (See Datasheet)", 28 PWM3 (in) "PWM Dimming Control Pin. When driven to a logic high, the LED1-3 current sink is enabled. Channels can be individually disabled by tying PWM1-3 to ground. If PWM dimming is not desired then the pin should be connected to (See Datasheet)", 29 PWM2 (in) "PWM Dimming Control Pin. When driven to a logic high, the LED1-3 current sink is enabled. Channels can be individually disabled by tying PWM1-3 to ground. If PWM dimming is not desired then the pin should be connected to (See Datasheet)", 30 PWM1 (in) "PWM Dimming Control Pin. When driven to a logic high, the LED1-3 current sink is enabled. Channels can be individually disabled by tying PWM1-3 to ground. If PWM dimming is not desired then the pin should be connected to (See Datasheet)", 31 CTRL3 (in) "Analog Dimming Control Pin. This pin is used to dim the LED current in an analog fashion. If the pin is tied to a voltage lower than 1.0V, it will linearly reduce the LED current. If unused the pin must be connected to VREF .", 32 CTRL2 (in) "Analog Dimming Control Pin. This pin is used to dim the LED current in an analog fashion. If the pin is tied to a voltage lower than 1.0V, it will linearly reduce the LED current. If unused the pin must be connected to VREF .", 33 CTRL1 (in) "Analog Dimming Control Pin. This pin is used to dim the LED current in an analog fashion. If the pin is tied to a voltage lower than 1.0V, it will linearly reduce the LED current. If unused the pin must be connected to VREF .", 37 BIAS (power) "Supply Pin. This pin is the supply for an internal voltage regulator for analog and digital circuitry. BIAS must be locally bypassed with a 4.7uF capacitor.", 44 DA "Catch Diode Anode. This pin is used to provide frequency foldback in extreme situations.", 46 BOOST "Boost Capacitor Pin. This pin is used to provide a voltage above the input voltage when the switch is on. It supplies current to the switch driver.", 48 SW (power) "Switch Pin. Connect the inductor, catch diode and boost capacitor to this pin.", 50 VIN (power) "Input Supply Pin. Pins are electrically connected inside the package. VIN must be locally bypassed with a 10uF capacitor to ground.", 51 VIN (power) "Input Supply Pin. Pins are electrically connected inside the package. VIN must be locally bypassed with a 10uF capacitor to ground.", 53 EP (power) "Ground Pin. This is the ground for both the IC and the switching converter. Exposed pad must be soldered to PCB ground."
part B pins: 11 NC "No Connection Pins. Tie to ground if unused.", 12 NC "No Connection Pins. Tie to ground if unused.", 18 NC "No Connection Pins. Tie to ground if unused.", 22 NC "No Connection Pins. Tie to ground if unused.", 23 NC "No Connection Pins. Tie to ground if unused.", 26 NC "No Connection Pins. Tie to ground if unused.", 34 NC "No Connection Pins. Tie to ground if unused.", 35 NC "No Connection Pins. Tie to ground if unused.", 39 NC "No Connection Pins. Tie to ground if unused.", 41 NC "No Connection Pins. Tie to ground if unused.", 43 NC "No Connection Pins. Tie to ground if unused."

## LT3596EUHG#TRPBF
designator U?
Step-Down LED Driver, 6 to 60 V Vin, 60 V Vout MAX, 39-pin QFN (UHG-52-V-UHG52 (39)), -40 to 125 degC, Pb-Free, Tape and Reel; Manufacturer: Linear Technology; PartNumber: LT3596EUHG#TRPBF; Topology: Buck, LED Driver; Vin Min(V): 6; DatasheetVersion: Rev. A; PackageVersion: Rev. B, 06/2010; PackageReference: UHG-52; PackageDescription: 39-Pin Plastic QFN, Body 5 x 8 mm; Supplier 1: Digi-Key; Supplier Part Number 1: LT3596EUHG#TRPBF-ND; Packing: Tape and Reel; RoHS: TRUE; Mounting Technology: Surface Mount; ComponentLink1Description: Manufacturer URL; ComponentLink1URL: http://www.linear.com/; ComponentLink2Description: Datasheet; ComponentLink2URL: http://cds.linear.com/docs/en/datasheet/3596fa.pdf; ComponentLink3Description: Package Specification; ComponentLink3URL: http://cds.linear.com/docs/en/packaging/QFN_52_05-08-1846.pdf
footprint LT-UHG-52-V-UHG52 (39)_N (QFN, 39-Leads, Body 8.1x5.1mm, Thermal Pad 5.9x2.9mm, IPC Medium Density)
footprint LT-UHG-52-V-UHG52 (39)_L (QFN, 39-Leads, Body 8.1x5.1mm, Thermal Pad 5.9x2.9mm, IPC High Density)
footprint LT-UHG-52-V-UHG52 (39)_M (QFN, 39-Leads, Body 8.1x5.1mm, Thermal Pad 5.9x2.9mm, IPC Low Density)
part A pins: 2 FB (in) "Feedback Pin. This pin is regulated to the internal bandgap voltage. The maximum buck output voltage is set by connecting this pin to a resistor divider from VOUT.", 4 EN/UVLO (in) "Enable and Undervoltage Lockout Pin. Accurate 1.5V falling threshold. UVLO threshold is programmed by using a resistor divider from VIN.", 6 TSET (in) "Thermal Regulation Pin. Programs the LT3596 junction temperature at which LED current begins to derate.", 7 VREF (out) "2V Reference Output Pin. This pin sources up to 200uA and is used to program TSET and CTRLM.", 9 GND (power) "Ground Pin. This is the ground for both the IC and the switching converter. Exposed pad must be soldered to PCB ground.", 13 CTRLM (in) "Master Control Pin. LED current derating vs temperature is achievable for all channels if the voltage on CTRLM has a negative coefficient using an external NTC resistor divider from VREF .", 14 ISET1 (in) "LED Current Programming Pin. Resistor to ground programs full-scale LED current.", 15 ISET2 (in) "LED Current Programming Pin. Resistor to ground programs full-scale LED current.", 16 ISET3 (in) "LED Current Programming Pin. Resistor to ground programs full-scale LED current.", 17 RT "Switching Frequency Programming Pin. A resistor to ground programs switching frequency between 200kHz and 1MHz. For the SYNC function, choose the resistor to program a frequency 20% slower than the SYNC pulse frequency.", 19 VOUT (power) "Buck Output. This is the buck regulator output voltage sense into the IC.", 20 LED1 (oc) "Constant-Current Sink Pin. These are three LED driver outputs, each containing an open collector, constant current sink. All outputs are matched within +/-1.5% and are individually programmed up to 100mA using an external (See Datasheet)", 21 LED2 (oc) "Constant-Current Sink Pin. These are three LED driver outputs, each containing an open collector, constant current sink. All outputs are matched within +/-1.5% and are individually programmed up to 100mA using an external (See Datasheet)", 24 LED3 (oc) "Constant-Current Sink Pin. These are three LED driver outputs, each containing an open collector, constant current sink. All outputs are matched within +/-1.5% and are individually programmed up to 100mA using an external (See Datasheet)", 25 ~{FAULT} (oc) "Fault Detection Pin. Open-collector pin used to report open LED faults. FAULT must be externally pulled to a positive supply.", 27 SYNC (in) "External Clock Synchronization Pin. When an external clock drives this pin, the buck regulator is synchronized to that frequency. Frequency programmed by the RT pin resistor must be at least 20% slower than the SYNC pin (See Datasheet)", 28 PWM3 (in) "PWM Dimming Control Pin. When driven to a logic high, the LED1-3 current sink is enabled. Channels can be individually disabled by tying PWM1-3 to ground. If PWM dimming is not desired then the pin should be connected to (See Datasheet)", 29 PWM2 (in) "PWM Dimming Control Pin. When driven to a logic high, the LED1-3 current sink is enabled. Channels can be individually disabled by tying PWM1-3 to ground. If PWM dimming is not desired then the pin should be connected to (See Datasheet)", 30 PWM1 (in) "PWM Dimming Control Pin. When driven to a logic high, the LED1-3 current sink is enabled. Channels can be individually disabled by tying PWM1-3 to ground. If PWM dimming is not desired then the pin should be connected to (See Datasheet)", 31 CTRL3 (in) "Analog Dimming Control Pin. This pin is used to dim the LED current in an analog fashion. If the pin is tied to a voltage lower than 1.0V, it will linearly reduce the LED current. If unused the pin must be connected to VREF .", 32 CTRL2 (in) "Analog Dimming Control Pin. This pin is used to dim the LED current in an analog fashion. If the pin is tied to a voltage lower than 1.0V, it will linearly reduce the LED current. If unused the pin must be connected to VREF .", 33 CTRL1 (in) "Analog Dimming Control Pin. This pin is used to dim the LED current in an analog fashion. If the pin is tied to a voltage lower than 1.0V, it will linearly reduce the LED current. If unused the pin must be connected to VREF .", 37 BIAS (power) "Supply Pin. This pin is the supply for an internal voltage regulator for analog and digital circuitry. BIAS must be locally bypassed with a 4.7uF capacitor.", 44 DA "Catch Diode Anode. This pin is used to provide frequency foldback in extreme situations.", 46 BOOST "Boost Capacitor Pin. This pin is used to provide a voltage above the input voltage when the switch is on. It supplies current to the switch driver.", 48 SW (power) "Switch Pin. Connect the inductor, catch diode and boost capacitor to this pin.", 50 VIN (power) "Input Supply Pin. Pins are electrically connected inside the package. VIN must be locally bypassed with a 10uF capacitor to ground.", 51 VIN (power) "Input Supply Pin. Pins are electrically connected inside the package. VIN must be locally bypassed with a 10uF capacitor to ground.", 53 EP (power) "Ground Pin. This is the ground for both the IC and the switching converter. Exposed pad must be soldered to PCB ground."
part B pins: 11 NC "No Connection Pins. Tie to ground if unused.", 12 NC "No Connection Pins. Tie to ground if unused.", 18 NC "No Connection Pins. Tie to ground if unused.", 22 NC "No Connection Pins. Tie to ground if unused.", 23 NC "No Connection Pins. Tie to ground if unused.", 26 NC "No Connection Pins. Tie to ground if unused.", 34 NC "No Connection Pins. Tie to ground if unused.", 35 NC "No Connection Pins. Tie to ground if unused.", 39 NC "No Connection Pins. Tie to ground if unused.", 41 NC "No Connection Pins. Tie to ground if unused.", 43 NC "No Connection Pins. Tie to ground if unused."